# EAGLE library part STMICRO-LIS3MDL (library FaBo-Axis)
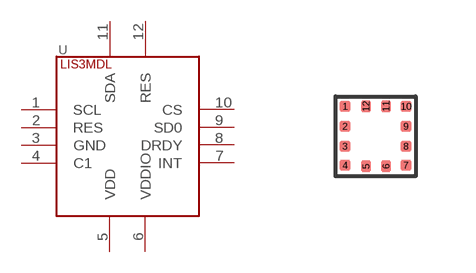
[diagram p8: symbol with the pads of STMICRO-LIS3MDLTR; footprint STMICRO-LIS3MDLTR]

Designator prefix -

## STMICRO-LIS3MDL  [STMICRO-LIS3MDLTR]
1  SCL
2  RES
3  GND
4  C1
5  VDD
6  VDDIO
7  INT
8  DRDY
9  SD0
10  CS
11  SDA
12  RES

## Footprint STMICRO-LIS3MDLTR (pad centres in mm)
smd 0.275 x 0.25: 1 -0.762,0.75; 2 -0.762,0.25; 3 -0.762,-0.25; 4 -0.762,-0.725; 7 0.762,-0.725; 8 0.762,-0.25; 9 0.762,0.25; 10 0.762,0.75
smd 0.25 x 0.275: 5 -0.237,-0.75; 6 0.263,-0.75; 11 0.263,0.75; 12 -0.237,0.75